# Altium footprint library BLDC Motor ESC.PcbLib: 5 footprints
Each footprint in its own frame and in the unit in brackets; x right, y up, seen from the top. Pads: shape width x height; smd on the part's side, far side on the other; paste and mask are expansions set on the pad; w line width, h text height; cw(c..) or ccw(c..) is an arc to the next point about the centre after c.
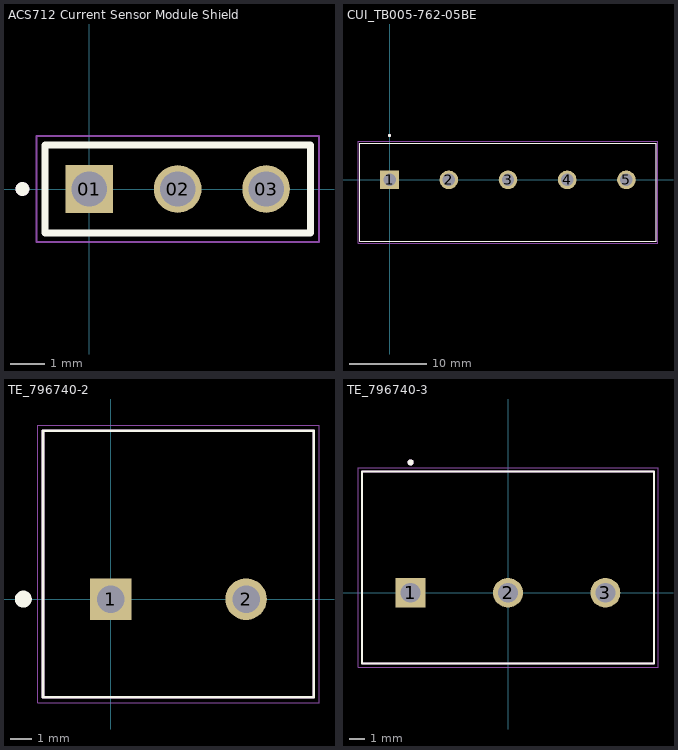
[diagram p0: the footprints below, top view; thin cyan lines are the x and y axes]

## ACS712 Current Sensor Module Shield [mm]
pads (3):
  rect 1.37x1.37 hole 1.02: 01(0,0)
  round 1.37 hole 1.02: 02(2.54,0) 03(5.08,0)
Top Overlay:
  circle w0.2: c-1.92,0 r0.1
  lines w0.2: -1.27,-1.27 6.35,-1.27 6.35,1.27 -1.27,1.27 -1.27,-1.27
Mechanical 13:
  circle w0.2: c-1.92,0 r0.1
  lines w0.1: -1.27,-1.27 6.35,-1.27 6.35,1.27 -1.27,1.27 -1.27,-1.27
Mechanical 15:
  lines w0.05: -1.52,-1.52 6.6,-1.52 6.6,1.52 -1.52,1.52 -1.52,-1.52
3D body "ACS 712 Stromsensor für Arduino.step": height 11.5, standoff -1.5, extent -2.413,-28.976 9.587,1.524

## CUI_TB005-762-05BE [mm]
pads (5):
  rect 2.4x2.4 hole 1.6: 1(0,0)
  round 2.4 hole 1.6: 2(7.62,0) 3(15.24,0) 4(22.86,0) 5(30.48,0)
Top Overlay:
  circle w0.2: c0,5.7 r0.1
  lines w0.127: -3.81,-7.9 -3.81,4.7 34.29,4.7 34.29,-7.9 -3.81,-7.9
Mechanical 13:
  circle w0.2: c0,5.7 r0.1
  lines w0.127: -3.81,-7.9 -3.81,4.7 34.29,4.7 34.29,-7.9 -3.81,-7.9
Mechanical 15:
  lines w0.05: -4.06,-8.15 34.54,-8.15 34.54,4.95 -4.06,4.95 -4.06,-8.15

## PCBComponent_1 [mm]
3D body "1776293-3.stp": height 15.01, standoff 0.01, extent -11,-8.5 11,8.5

## TE_796740-2 [mm]
pads (2):
  rect 1.95x1.95 hole 1.3: 1(0,0)
  round 1.95 hole 1.3: 2(6.35,0)
Top Overlay:
  circle w0.4: c-4.105,0 r0.2
  lines w0.127: -3.18,-4.6 9.52,-4.6 9.52,7.9 -3.18,7.9 -3.18,-4.6
Mechanical 13:
  lines w0.127: -3.18,-4.6 9.52,-4.6 9.52,7.9 -3.18,7.9 -3.18,-4.6
Mechanical 15:
  lines w0.05: -3.43,-4.85 -3.43,8.15 9.77,8.15 9.77,-4.85 -3.43,-4.85
3D body "796740-2--3DModel-STEP-1.STEP": height 21.51, standoff -4.99, extent -3.775,-4.626 9.525,7.874

## TE_796740-3 [mm]
pads (3):
  rect 1.95x1.95 hole 1.3: 1(-6.35,0)
  round 1.95 hole 1.3: 2(0,0) 3(6.35,0)
Top Overlay:
  circle w0.2: c-6.35,8.5 r0.1
  lines w0.127: -9.53,-4.6 9.53,-4.6 9.53,7.9 -9.53,7.9 -9.53,-4.6
Mechanical 13:
  circle w0.2: c-6.35,8.5 r0.1
  lines w0.127: -9.53,-4.6 9.53,-4.6 9.53,7.9 -9.53,7.9 -9.53,-4.6
Mechanical 15:
  lines w0.05: -9.78,-4.85 9.78,-4.85 9.78,8.15 -9.78,8.15 -9.78,-4.85
3D body "step_temp.STEP": height 21.51, standoff -4.99, extent -10.079,-4.626 9.571,7.874